# EAGLE library part 66201111022 (library Wire-to-Board (rev18a))
WR-MPC3 3.00mm Male Single Row Angled Header with Plastic Pegs, 11 Pins=>Code : Con_WTB_MPC3_1_PCB_66201111022 <http://katalog.we-online.de/media/thumbs2/eican/thb_Con_WTB_MPC3_1_PCB_6620xx11022_pf2.jpg> Details see: http://katalog.we-online.de/en/em/MPC3_3_00_SMT_MALE_SINGLE_ROW_ANGLED_HEADER_W_PLASTIC_PEGS_6620XX11022 Created 2014-06-06, Karrer Zheng 2014 (C) Würth Elektronik
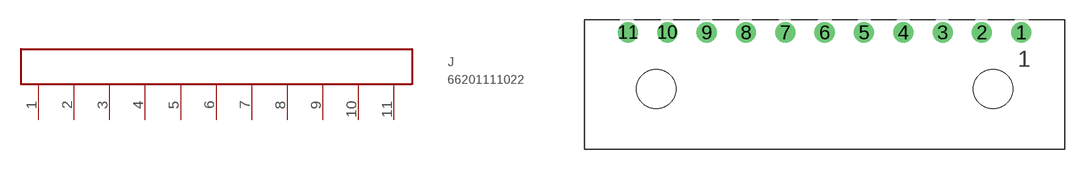
[diagram p356: symbol with the pads of 66201111022; footprint 66201111022]

Designator prefix J

## 66201111022  [66201111022]
1  1  pas
2  2  hiz
3  3  pas
4  4  pas
5  5  pas
6  6  pas
7  7  pas
8  8  pas
9  9  pas
10  10  pas
11  11  pas

## Footprint 66201111022 (pad centres in mm)
WR-MPC3 3.00mm Male Single Row Angled Header with Plastic Pegs, 11 Pins
drill 1.02: 1 15,4.32; 2 12,4.32; 3 9,4.32; 4 6,4.32; 5 3,4.32; 6 0,4.32; 7 -3,4.32; 8 -6,4.32; 9 -9,4.32; 10 -12,4.32; 11 -15,4.32
hole 3 at 12.85,0
hole 3 at -12.85,0